# EAGLE library part JST-PH8 (library jst-ph)
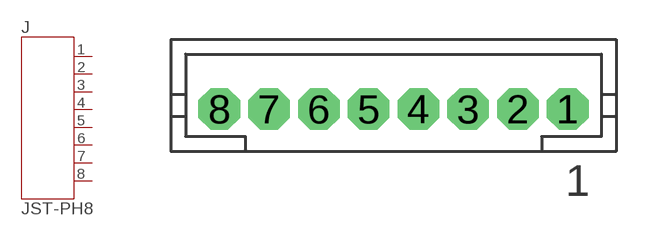
[diagram p1: symbol with the pads of JST-PH8; footprint JST-PH8]

Designator prefix J

## JST-PH8  [JST-PH8]
1  1  pas
2  2  pas
3  3  pas
4  4  pas
5  5  pas
6  6  pas
7  7  pas
8  8  pas

## Footprint JST-PH8 (pad centres in mm)
drill 0.813 pad 1.676 octagon: 1 3,0; 2 1,0; 3 -1,0; 4 -3,0; 5 -5,0; 6 -7,0; 7 -9,0; 8 -11,0